# Altium schematic symbol library 171814-0004.SchLib: 1 symbol
Pins are listed as number, name and electrical type; pins without a type are passive.

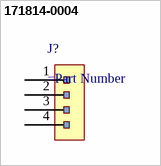
[diagram p0: symbol 171814-0004]

## 171814-0004
designator J?
=Description
pins: 1, 2, 3, 4